# Altium footprint library inductors.PcbLib: 2 footprints
Each footprint in its own frame and in the unit in brackets; x right, y up, seen from the top. Pads: shape width x height; smd on the part's side, far side on the other; paste and mask are expansions set on the pad; w line width, h text height; cw(c..) or ccw(c..) is an arc to the next point about the centre after c.
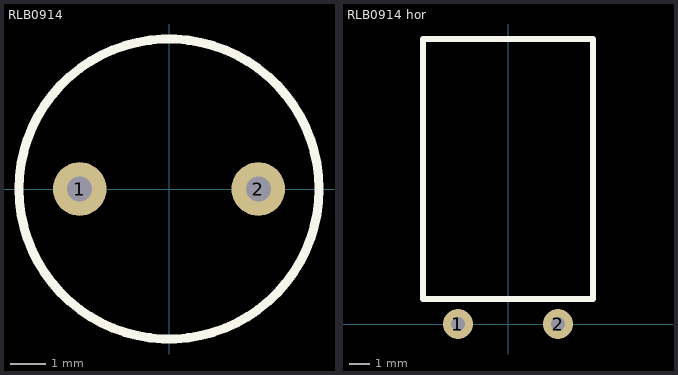
[diagram p0: the footprints below, top view; thin cyan lines are the x and y axes]

## RLB0914 [mm] "Radial Inductor"
height 13
pads (2):
  round 1.5 hole 0.7: 1(-2.5,0) 2(2.5,0)
Top Overlay:
  circle w0.254: c0,0 r4.2

## RLB0914 hor [mm] "Horizontal Radial Inductor"
height 8
pads (2):
  round 1.5 hole 0.7: 1(-2.5,0) 2(2.5,0)
Top Overlay:
  lines w0.3: -4.25,1.25 4.25,1.25 4.25,14.25 -4.25,14.25 -4.25,1.25